# Altium footprint library rj11.PcbLib: 1 footprints
Each footprint in its own frame and in the unit in brackets; x right, y up, seen from the top. Pads: shape width x height; smd on the part's side, far side on the other; paste and mask are expansions set on the pad; w line width, h text height; cw(c..) or ccw(c..) is an arc to the next point about the centre after c.
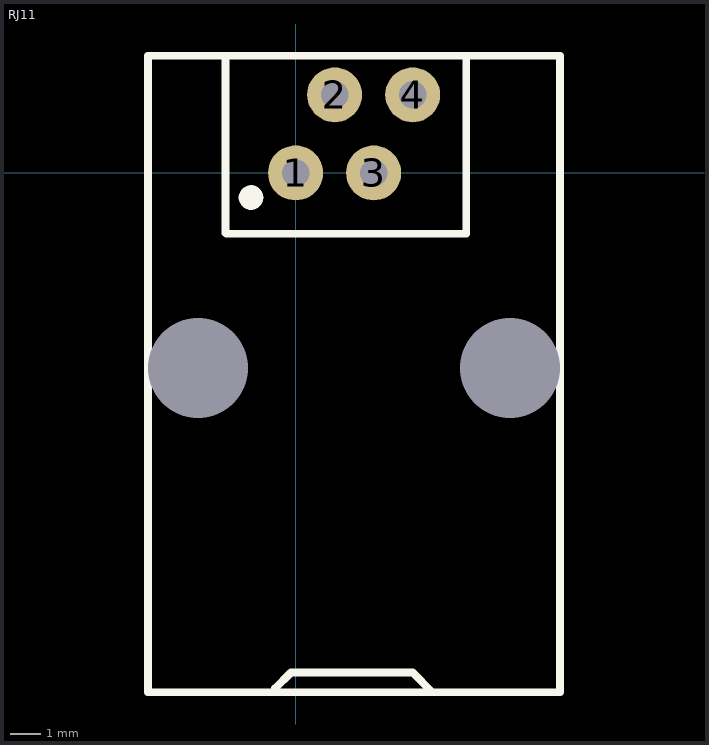
[diagram p0: the footprint, top view; thin cyan lines are the x and y axes]

## RJ11 [mm]
pads (6):
  round 1.79 hole 0.89: 1(0,0) 2(1.27,2.54) 3(2.54,0) 4(3.81,2.54)
  round 0 hole 3.25: ""(-3.18,-6.35) ""(6.98,-6.35)
Top Overlay:
  circle w0.4: c-1.45,-0.8 r0.2
  lines w0.254: -2.275,3.81 -2.275,-1.95 -2.25,-1.975 5.55,-1.975 5.55,3.81 ; -0.675,-16.775 -0.15,-16.25 3.81,-16.25 4.45,-16.89 ; -4.805,-16.89 -4.805,-6.35 -4.805,3.81 8.605,3.81 8.605,-6.35 8.605,-16.89 -4.805,-16.89
Keep-Out Layer:
  lines w0.254: -0.675,-16.89 -0.675,-16.775
3D body: height 12.85, standoff 0, extent -4.825,-16.875 8.625,3.85